# Altium footprint library HV_Connectors.PcbLib: 3 footprints
Each footprint in its own frame and in the unit in brackets; x right, y up, seen from the top. Pads: shape width x height; smd on the part's side, far side on the other; paste and mask are expansions set on the pad; w line width, h text height; cw(c..) or ccw(c..) is an arc to the next point about the centre after c.
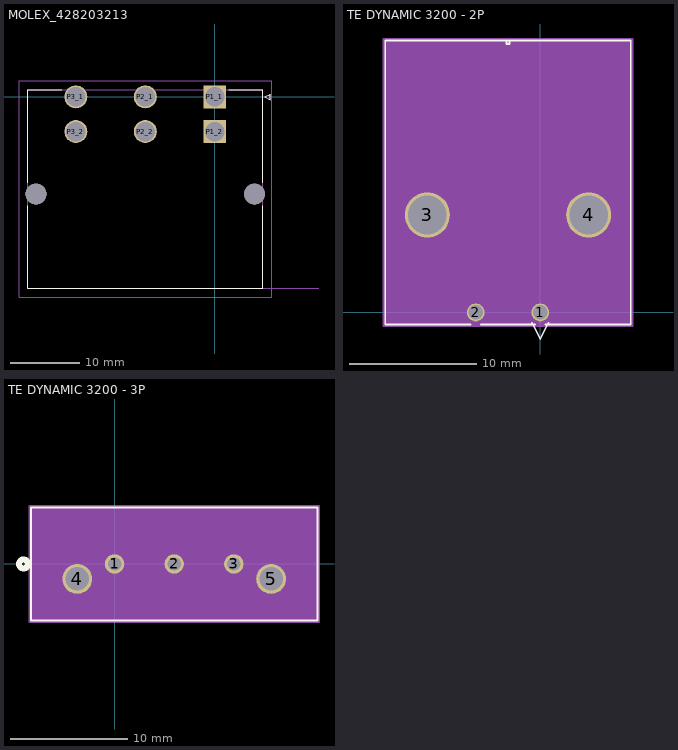
[diagram p0: the footprints below, top view; thin cyan lines are the x and y axes]

## MOLEX_428203213 [mm]
height 14.1
pads (8):
  rect 3.3x3.3 / inner round 3.3 / far side rect 3.3x3.3 hole 2.8 mask+0.076: P1_1(0,0) P1_2(0,-5)
  round 3.3 hole 2.8 mask+0.076: P2_1(-10,0) P2_2(-10,-5) P3_1(-20,0) P3_2(-20,-5)
  round 3 hole 3 unplated mask+0.076: ""(-25.73,-14) ""(5.73,-14)
Top Overlay:
  lines w0.127: -26.91,-15.7 -26.91,-27.56 6.91,-27.56 6.91,-15.7 ; -26.91,-12.4 -26.91,1.03 -22,1.03 ; 2,1.03 6.91,1.03 6.91,-12.4 ; 7.207,0 8.007,0.4 8.007,-0.4 7.207,0
Mechanical 13:
  lines w0.127: 15,-27.56 6.91,-27.56 ; 6.91,-27.56 -26.91,-27.56 -26.91,1.03 6.91,1.03 6.91,-27.56 ; 7.207,0 8.007,0.4 8.007,-0.4 7.207,0
  text "PCB Edge" at 9,-27 h1.27
  text "NPTH D3.00 +/-0.05" at -26.91,2.51 h0.5
  text "PTH D2.80 +/-0.05" at -26.91,3.41 h0.5
Mechanical 15:
  lines w0.05: -28.18,-28.83 8.18,-28.83 8.18,2.3 -28.18,2.3 -28.18,-28.83
3D body "0428203213.stp": height 14.12, standoff -3.53, extent -26.816,-27.699 7.004,0.901

## TE DYNAMIC 3200 - 2P [mil]
pads (4):
  round 55 / inner round 60 / far side round 55 hole 45 paste-27.5 mask+0: 1(0,0) 2(-200,0)
  round 140 / inner round 60 / far side round 140 hole 120 paste-70 mask-70: 3(-350,302.36) 4(150,302.36)
Top Overlay:
  lines w6: -216.08,-37.28 -480.59,-37.28 -480.59,842.8 280.59,842.8 280.59,-37.28 16.08,-37.28 ; -183.92,-37.28 -16.08,-37.28 ; -25,-32.28 0,-82.28 25,-32.28 ; -105,832.8 -105,842.8 -95,842.8 -95,832.8 -105,832.8
Mechanical 13:
  lines w1: -25,-32.28 0,-82.28 25,-32.28 ; -475.59,-32.28 -475.59,837.8 275.59,837.8 275.59,-32.28 -475.59,-32.28
Mechanical 15:
  region: -485.59,847.8 -485.59,-42.28 285.59,-42.28 285.59,847.8
  lines w6: -485.59,-42.28 -485.59,847.8 285.59,847.8 285.59,-42.28 -485.59,-42.28
3D body "c-0179276-12-b-3d.stp": height 427.94, standoff -148.83, extent -480.59,-30.47 270.59,839.61

## TE DYNAMIC 3200 - 3P [mil]
pads (5):
  round 65 / inner round 60 / far side round 65 hole 45 paste-32.5 mask+0: 1(0,0) 2(200,0) 3(400,0)
  round 100 / inner round 60 / far side round 100 hole 79 paste-50 mask-50: 4(-125,-50) 5(525,-50)
Top Overlay:
  circle w20: c-305.59,0 r15
  lines w6: -280.59,-189.11 680.59,-189.11 680.59,189 -280.59,189 -280.59,-189.11
Bottom Overlay:
  circle w20: c-305.59,0 r15
Mechanical 13:
  circle w20: c0,75 r15
  lines w1: -275.59,-184.11 675.59,-184.11 675.59,184 -275.59,184 -275.59,-184.11
Mechanical 15:
  region: 685.59,194 -285.59,194 -285.59,-194.11 685.59,-194.11
  lines w6: -285.59,-194.11 -285.59,194 685.59,194 685.59,-194.11 -285.59,-194.11